# EAGLE library part EE02_BREAKOUT_HEADER (library EE)
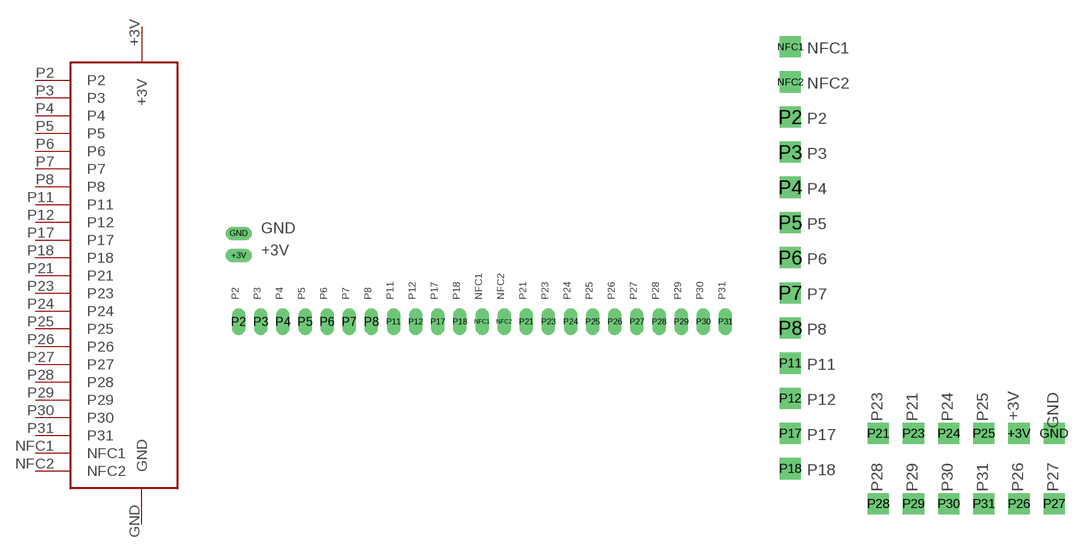
[diagram p5: symbol with the pads of BREAKOUT_BREADBOARD; footprints BREAKOUT_BREADBOARD, BREAKOUT_SOLDER]

Designator prefix -

## EE02_BREAKOUT_HEADER_BREADBOARD  [BREAKOUT_BREADBOARD]
+3V  +3V
GND  GND
NFC1  NFC1
NFC2  NFC2
P2  P2
P3  P3
P4  P4
P5  P5
P6  P6
P7  P7
P8  P8
P11  P11
P12  P12
P17  P17
P18  P18
P21  P21
P23  P23
P24  P24
P25  P25
P26  P26
P27  P27
P28  P28
P29  P29
P30  P30
P31  P31

## EE02_BREAKOUT_HEADER_SOLDER  [BREAKOUT_SOLDER]
Pads as for BREAKOUT_BREADBOARD

## Footprint BREAKOUT_BREADBOARD (pad centres in mm)
PIN HEADER
drill 1.016 long: +3V -13.97,7.62; GND -13.97,10.16; NFC1 13.97,0; NFC2 16.51,0; P2 -13.97,0; P3 -11.43,0; P4 -8.89,0; P5 -6.35,0; P6 -3.81,0; P7 -1.27,0; P8 1.27,0; P11 3.81,0; P12 6.35,0; P17 8.89,0; P18 11.43,0; P21 19.05,0; P23 21.59,0; P24 24.13,0; P25 26.67,0; P26 29.21,0; P27 31.75,0; P28 34.29,0; P29 36.83,0; P30 39.37,0; P31 41.91,0

## Footprint BREAKOUT_SOLDER (pad centres in mm)
PIN HEADER
drill 1.016 square: +3V -6.35,-26.67; GND -3.81,-26.67; NFC1 -22.86,1.27; NFC2 -22.86,-1.27; P2 -22.86,-3.81; P3 -22.86,-6.35; P4 -22.86,-8.89; P5 -22.86,-11.43; P6 -22.86,-13.97; P7 -22.86,-16.51; P8 -22.86,-19.05; P11 -22.86,-21.59; P12 -22.86,-24.13; P17 -22.86,-26.67; P18 -22.86,-29.21; P21 -16.51,-26.67; P23 -13.97,-26.67; P24 -11.43,-26.67; P25 -8.89,-26.67; P26 -6.35,-31.75; P27 -3.81,-31.75; P28 -16.51,-31.75; P29 -13.97,-31.75; P30 -11.43,-31.75; P31 -8.89,-31.75